# Altium schematic symbol library transformators.SchLib: 10 symbols
Pins are listed as number, name and electrical type; pins without a type are passive.

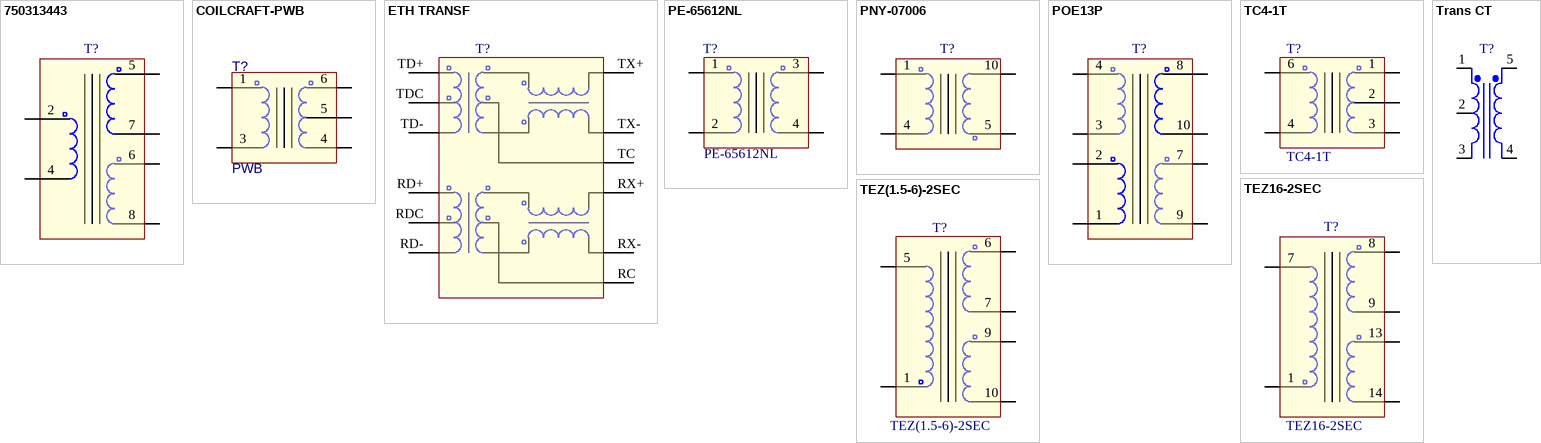
[diagram p0: symbols 750313443 to Trans CT]

## 750313443
designator T?  (value not drawn)
WE-FLYLT Flyback Transformer
footprint 750313443
pins: 2, 4, 5, 6, 7, 8

## COILCRAFT-PWB
designator T?, comment PWB
Wideband RF Transformers; Value: PWB2010
footprint PWB (SMD Wideband RF Transformer; 7.2x6.5x4.45mm)
pins: 1, 3, 4, 5, 6

## ETH TRANSF
designator T?  (value not drawn)
footprint H1102NLT
pins: RC, RD+, RD-, RDC, RX+, RX-, TC, TD+, TD-, TDC, TX+, TX-

## PE-65612NL
designator T?
Audio Transformers / Signal Transformers; value: PE-65612NL
footprint PE-65612NL
pins: 1, 2, 3, 4

## PNY-07006
designator T?  (value not drawn)
SWITCHING TRANSFORMER DESIGNED FOR USE WITH POWER INTEGRATIONS TNY-254
footprint PNY-07006 (SWITCHING TRANSFORMER for TNY-254)
pins: 1, 4, 5, 10

## POE13P
designator T?  (value not drawn)
pins: 1, 2, 3, 4, 7, 8, 9, 10

## TC4-1T
designator T?
RF WIDEBAND; Value: TC4-1T
footprint AT224 (Case style: AT224)
pins: 1, 2, 3, 4, 6

## TEZ16-2SEC
designator T?
value: TEZ16-2SEC
footprint TEZ16
pins: 1, 7, 8, 9, 13, 14

## TEZ(1.5-6)-2SEC
designator T?
value: TEZ(1.5-6)-2SEC
footprint TEZ4
pins: 1, 5, 6, 7, 9, 10

## Trans CT
designator T?
Center-Tapped Transformer (Coupled Inductor Model); Published: 8-Jun-2000; LatestRevisionDate: 17-Jul-2002; LatestRevisionNote: Re-released for DXP Platform.; PackageReference: TRF_5; Publisher: Altium Limited
footprint AUDIO_6N1
simulation model TRANSFORMER (Transformer)
pins: 1 Sec+, 2 SecCT, 3 Sec-, 4 Pri-, 5 Pri+